# Altium integrated library Semiconductors.IntLib: 36 symbols (part 1 of 2)
Pins are listed as number, name and electrical type; pins without a type are passive.

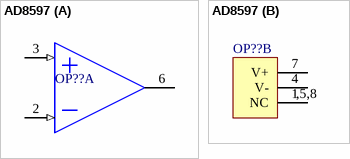
[diagram p0: symbol AD8597]

## AD8597
designator OP??
part A pins: 2 (in), 3 (in), 6
part B pins: 1 NC (power), 4 V- (power), 5 (power), 7 V+ (power), 8 (power)
part B text: ,5,8


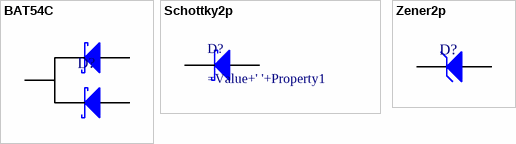
[diagram p1: symbols BAT54C to Zener2p]

## BAT54C
designator D?
pins: 1 A, 2 A, 3 K
1 alternate drawing of the same symbol

## Schottky2p
designator D?
pins: 1 K, 2 A

## Zener2p
designator D?
pins: 1 K, 2 A
1 alternate drawing of the same symbol


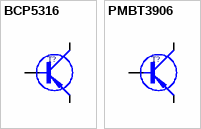
[diagram p2: symbols BCP5316 to PMBT3906]

## BCP5316
designator T?
pins: 1 B, 2 C (oc), 3 E (oe)

## PMBT3906
designator T?
pins: 1 B, 2 E (oe), 3 C (oc)


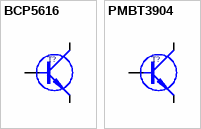
[diagram p3: symbols BCP5616 to PMBT3904]

## BCP5616
designator T?
pins: 1 B, 2 C (oc), 3 E (oe)
1 alternate drawing of the same symbol

## PMBT3904
designator T?
pins: 1 B, 2 E (oe), 3 C (oc)
1 alternate drawing of the same symbol


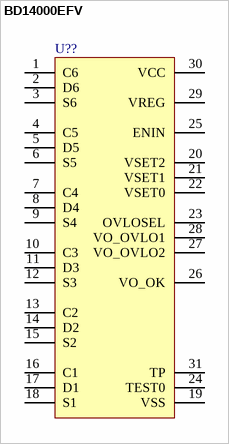
[diagram p4: symbol BD14000EFV]

## BD14000EFV
designator U??
pins: 1 C6 (power), 2 D6 (power), 3 S6 (power), 4 C5 (power), 5 D5 (power), 6 S5 (power), 7 C4 (power), 8 D4 (power), 9 S4 (power), 10 C3 (power), 11 D3 (power), 12 S3 (power), 13 C2 (power), 14 D2 (power), 15 S2 (power), 16 C1 (power), 17 D1 (power), 18 S1 (power), 19 VSS (power), 20 VSET2 (power), 21 VSET1 (power), 22 VSET0 (power), 23 OVLOSEL (power), 24 TEST0 (power), 25 ENIN (power), 26 VO_OK (power), 27 VO_OVLO2 (power), 28 VO_OVLO1 (power), 29 VREG (power), 30 VCC (power), 31 TP (power)


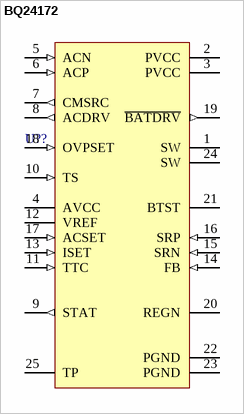
[diagram p5: symbol BQ24172]

## BQ24172
designator U??
pins: 1 SW (power), 2 PVCC (power), 3 PVCC (power), 4 AVCC (power), 5 ACN (in), 6 ACP (in), 7 CMSRC (out), 8 ACDRV (out), 9 STAT (out), 10 TS (in), 11 TTC (in), 12 VREF (power), 13 ISET (in), 14 FB (in), 15 SRN (in), 16 SRP (in), 17 ACSET (in), 18 OVPSET (in), 19 ~{BATDRV} (out), 20 REGN (power), 21 BTST (power), 22 PGND (power), 23 PGND (power), 24 SW (power), 25 TP (power)


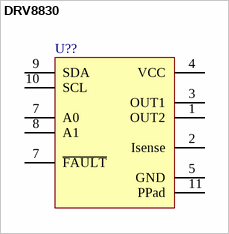
[diagram p6: symbol DRV8830]

## DRV8830
designator U??
pins: 1 OUT2, 2 Isense, 3 OUT1, 4 VCC, 5 GND, 7 A0, 7 ~{FAULT}, 8 A1, 9 SDA, 10 SCL, 11 PPad


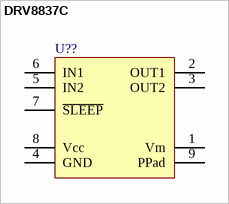
[diagram p7: symbol DRV8837C]

## DRV8837C
designator U??
pins: 1 Vm, 2 OUT1, 3 OUT2, 4 GND, 5 IN2, 6 IN1, 7 ~{SLEEP}, 8 Vcc, 9 PPad


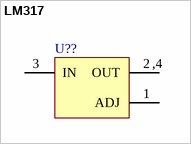
[diagram p8: symbol LM317]

## LM317
designator U??
pins: 1 ADJ, 2 OUT, 3 IN
text: ,4


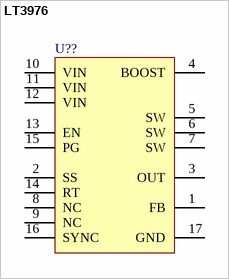
[diagram p9: symbol LT3976]

## LT3976
designator U??
pins: 1 FB, 2 SS (power), 3 OUT, 4 BOOST, 5 SW, 6 SW, 7 SW, 8 NC (power), 9 NC (power), 10 VIN, 11 VIN, 12 VIN, 13 EN (power), 14 RT (power), 15 PG (power), 16 SYNC (power), 17 GND


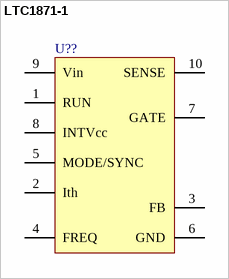
[diagram p10: symbol LTC1871-1]

## LTC1871-1
designator U??
pins: 1 RUN (power), 2 Ith (power), 3 FB (power), 4 FREQ (power), 5 MODE/SYNC (power), 6 GND (power), 7 GATE, 8 INTVcc (power), 9 Vin, 10 SENSE (power)


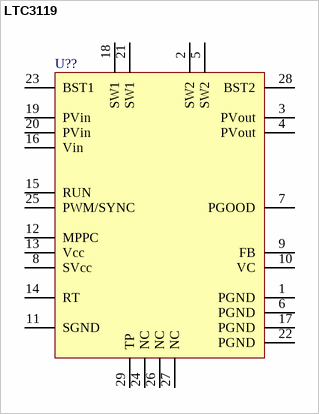
[diagram p11: symbol LTC3119]

## LTC3119
designator U??
pins: 1 PGND (power), 2 SW2 (power), 3 PVout, 4 PVout, 5 SW2 (power), 6 PGND (power), 7 PGOOD (power), 8 SVcc (power), 9 FB (power), 10 VC (power), 11 SGND (power), 12 MPPC (power), 13 Vcc (power), 14 RT (power), 15 RUN (power), 16 Vin, 17 PGND (power), 18 SW1 (power), 19 PVin, 20 PVin, 21 SW1 (power), 22 PGND (power), 23 BST1 (power), 24 NC (power), 25 PWM/SYNC (power), 26 NC (power), 27 NC (power), 28 BST2 (power), 29 TP (power)


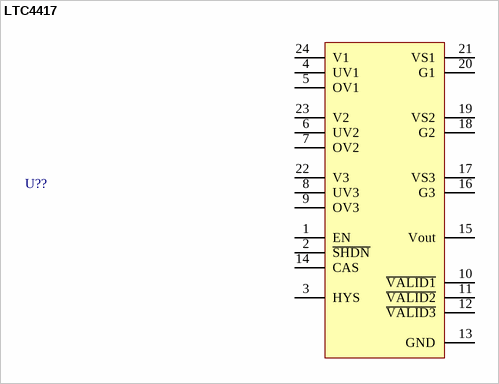
[diagram p12: symbol LTC4417]

## LTC4417
designator U??
pins: 1 EN, 2 ~{SHDN}, 3 HYS, 4 UV1, 5 OV1, 6 UV2, 7 OV2, 8 UV3, 9 OV3, 10 ~{VALID1}, 11 ~{VALID2}, 12 ~{VALID3}, 13 GND, 14 CAS, 15 Vout, 16 G3, 17 VS3, 18 G2, 19 VS2, 20 G1, 21 VS1, 22 V3, 23 V2, 24 V1


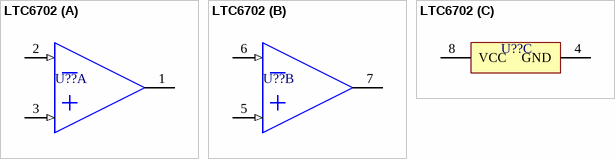
[diagram p13: symbol LTC6702]

## LTC6702
designator U??
part A pins: 1, 2 (in), 3 (in)
part B pins: 5 (in), 6 (in), 7
part C pins: 4 GND (power), 8 VCC (power)


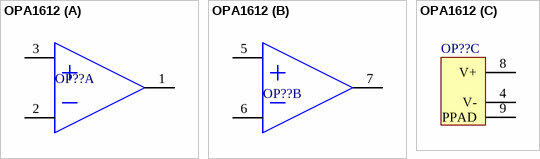
[diagram p14: symbol OPA1612]

## OPA1612
designator OP??
part A pins: 1 OUTA, 2 -INA, 3 +INA
part B pins: 5 +INB, 6 -INB, 7 OUTB
part C pins: 4 V-, 8 V+, 9 PPAD


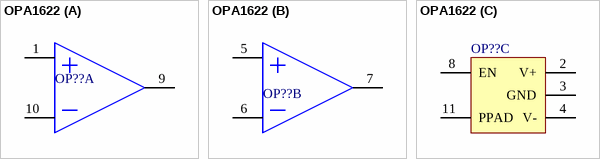
[diagram p15: symbol OPA1622]

## OPA1622
designator OP??
part A pins: 1 +INA, 9 OUTA, 10 -INA
part B pins: 5 +INB, 6 -INB, 7 OUTB
part C pins: 2 V+, 3 GND, 4 V-, 8 EN, 11 PPAD


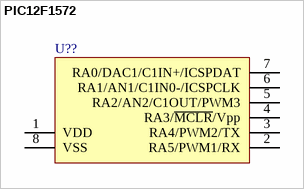
[diagram p16: symbol PIC12F1572]

## PIC12F1572
designator U??
pins: 1 VDD, 2 RA5/PWM1/RX (power), 3 RA4/PWM2/TX, 4 RA3/~{MCLR}/Vpp, 5 RA2/AN2/C1OUT/PWM3, 6 RA1/AN1/C1IN0-/ICSPCLK, 7 RA0/DAC1/C1IN+/ICSPDAT, 8 VSS (power)


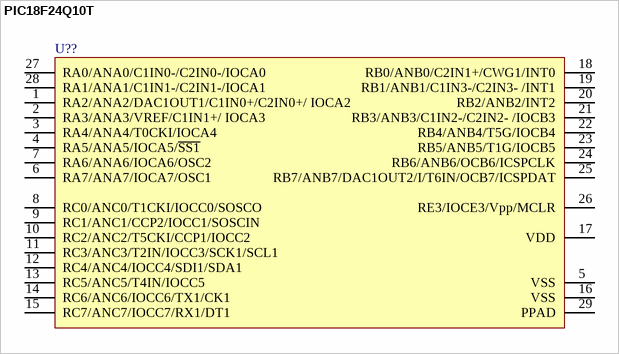
[diagram p17: symbol PIC18F24Q10T]

## PIC18F24Q10T
designator U??
pins: 1 RA2/ANA2/DAC1OUT1/C1IN0+/C2IN0+/ IOCA2, 2 RA3/ANA3/VREF/C1IN1+/ IOCA3, 3 RA4/ANA4/T0CKI/IOCA4, 4 RA5/ANA5/IOCA5/~{SS1} (power), 5 VSS (power), 6 RA7/ANA7/IOCA7/OSC1, 7 RA6/ANA6/IOCA6/OSC2, 8 RC0/ANC0/T1CKI/IOCC0/SOSCO, 9 RC1/ANC1/CCP2/IOCC1/SOSCIN, 10 RC2/ANC2/T5CKI/CCP1/IOCC2, 11 RC3/ANC3/T2IN/IOCC3/SCK1/SCL1, 12 RC4/ANC4/IOCC4/SDI1/SDA1, 13 RC5/ANC5/T4IN/IOCC5, 14 RC6/ANC6/IOCC6/TX1/CK1, 15 RC7/ANC7/IOCC7/RX1/DT1, 16 VSS, 17 VDD, 18 RB0/ANB0/C2IN1+/CWG1/INT0, 19 RB1/ANB1/C1IN3-/C2IN3- /INT1, 20 RB2/ANB2/INT2, 21 RB3/ANB3/C1IN2-/C2IN2- /IOCB3, 22 RB4/ANB4/T5G/IOCB4, 23 RB5/ANB5/T1G/IOCB5, 24 RB6/ANB6/OCB6/ICSPCLK, 25 RB7/ANB7/DAC1OUT2/I/T6IN/OCB7/ICSPDAT, 26 RE3/IOCE3/Vpp/MCLR, 27 RA0/ANA0/C1IN0-/C2IN0-/IOCA0, 28 RA1/ANA1/C1IN1-/C2IN1-/IOCA1, 29 PPAD (power)


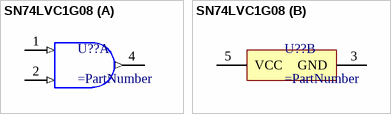
[diagram p18: symbol SN74LVC1G08]

## SN74LVC1G08
designator U??
part A pins: 1 1A (in), 2 1B (in), 4 1Y (out)
part B pins: 3 GND (power), 5 VCC (power)


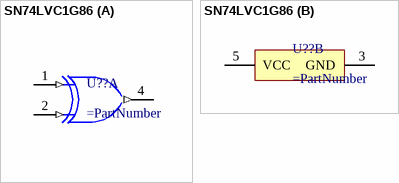
[diagram p19: symbol SN74LVC1G86]

## SN74LVC1G86
designator U??
part A pins: 1 1A (in), 2 1B (in), 4 1Y (out)
part B pins: 3 GND (power), 5 VCC (power)


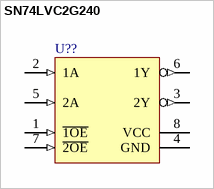
[diagram p20: symbol SN74LVC2G240]

## SN74LVC2G240
designator U??
pins: 1 ~{1OE} (in), 2 1A (in), 3 2Y (out), 4 GND (power), 5 2A (in), 6 1Y (out), 7 ~{2OE} (in), 8 VCC (power)


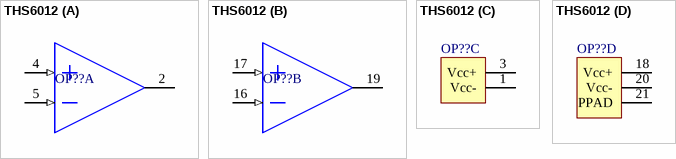
[diagram p21: symbol THS6012]

## THS6012
designator OP??
part A pins: 2, 4 (in), 5 (in)
part B pins: 16 (in), 17 (in), 19
part C pins: 1 Vcc- (power), 3 Vcc+ (power)
part D pins: 6, 7, 8, 9, 10, 11, 12, 13, 14, 15, 18 Vcc+ (power), 20 Vcc- (power), 21 PPAD


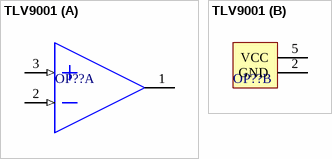
[diagram p22: symbol TLV9001]

## TLV9001
designator OP??
part A pins: 1, 2 (in), 3 (in)
part B pins: 2 GND (power), 5 VCC (power)
